# Altium footprint library Sparkfun.PcbLib: 5 footprints
Each footprint in its own frame and in the unit in brackets; x right, y up, seen from the top. Pads: shape width x height; smd on the part's side, far side on the other; paste and mask are expansions set on the pad; w line width, h text height; cw(c..) or ccw(c..) is an arc to the next point about the centre after c.
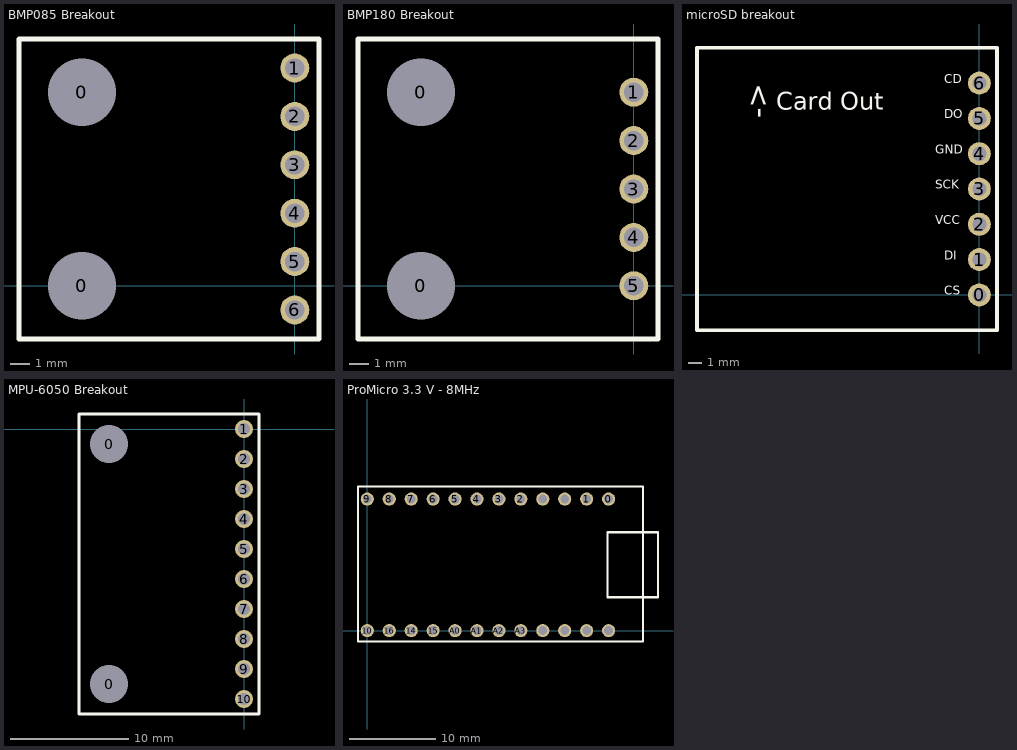
[diagram p0: the footprints below, top view; thin cyan lines are the x and y axes]

## BMP085 Breakout [mil] "Altimètre Barométrique"
pads (8):
  round 62.99 hole 140: 0(-440,0) 0(-440,400)
  round 60 hole 40: 1(0,450) 2(0,350) 3(0,250) 4(0,150) 5(0,50) 6(0,-50)
Top Overlay:
  lines w10: -570,-110 50,-110 50,510 -570,510 -570,-110
3D body "Pin Header 1x6 TH Pitch 2.54mm.stp": height 125.98, standoff -373.85, extent -50,-100 50,500

## BMP180 Breakout [mil] "Altimètre Barométrique"
pads (7):
  round 62.99 hole 140: 0(-440,0) 0(-440,400)
  round 60 hole 40: 1(0,400) 2(0,300) 3(0,200) 4(0,100) 5(0,0)
Top Overlay:
  lines w10: -570,-110 -570,510 50,510 50,-110 -570,-110

## microSD breakout [mil]
pads (7):
  round 65 hole 40: 0(0,0) 1(0,100) 2(0,200) 3(0,300) 4(0,400) 5(0,500) 6(0,600)
Top Overlay:
  lines w10: -800,-100 -800,700 50,700 50,-100 -800,-100
  text "->" at -600,500 h60
  text "Card Out" at -575,525 h50
  text "CD" at -100,600 h25
  text "DO" at -100,500 h25
  text "GND" at -125,400 h25
  text "SCK" at -125,300 h25
  text "VCC" at -125,200 h25
  text "DI" at -100,100 h25
  text "CS" at -100,0 h25

## MPU-6050 Breakout [mil] "Accéléromètre/Gyroscope"
pads (12):
  round 62.99 hole 125.98: 0(-450,-850) 0(-450,-50)
  round 60 hole 40: 1(0,0) 2(0,-100) 3(0,-200) 4(0,-300) 5(0,-400) 6(0,-500) 7(0,-600) 8(0,-700) 9(0,-800) 10(0,-900)
Top Overlay:
  lines w10: -550,-950 50,-950 50,50 -550,50 -550,-950

## ProMicro 3.3 V - 8MHz [mil]
pads (24):
  round 60 hole 40: 0(1100,600) 1(1000,600) 2(700,600) 3(600,600) 4(500,600) 5(400,600) 6(300,600) 7(200,600) 8(100,600) 9(0,600) 10(0,0) 14(200,0) 15(300,0) 16(100,0) A0(400,0) A1(500,0) A2(600,0) A3(700,0) GND(800,600) GND(900,600) GND(1000,0) RAW(1100,0) RST(900,0) VCC(800,0)
Top Overlay:
  lines w10: 1095,151.85 1095,448.7 ; 1095.94,151.85 1325.35,151.85 ; 1095.94,448.7 1325.35,448.7 ; 1325,151.85 1325,448.7 ; -42.52,-50 1257.48,-50 1257.48,657.48 -42.52,657.48 -42.52,-50